# Altium schematic symbol library LED.SchLib: 3 symbols
Pins are listed as number, name and electrical type; pins without a type are passive.

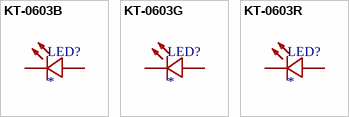
[diagram p0: symbols KT-0603B to KT-0603R]

## KT-0603B
designator LED?
footprint LED0603-BL
pins: 1 K, 2 A

## KT-0603G
designator LED?
footprint LED0603-GR
pins: 1 K, 2 A

## KT-0603R
designator LED?
footprint LED0603-RD
pins: 1 K, 2 A